# Altium schematic symbol library MHDR1X3.Schlib: 1 symbol
Pins are listed as number, name and electrical type; pins without a type are passive.

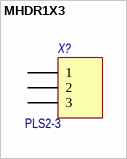
[diagram p0: symbol MHDR1X3]

## MHDR1X3
designator X?  Наименование: PLS2-3  (hidden comment: MHDR1X3)
Header, 3-Pin; Назначение: Вилка штыревая 2мм 1х3 прямая; LatestRevisionDate: 17-Jul-2002; LatestRevisionNote: Re-released for DXP Platform.; Publisher: Altium Limited
footprint MHDR1X3 (Connector; Header; 3 Position)
signal-integrity model Connector
pins: 1, 2, 3